# Altium footprint library CHXXX.pcblib: 121 footprints (part 6 of 8)
Each footprint in its own frame and in the unit in brackets; x right, y up, seen from the top. Pads: shape width x height; smd on the part's side, far side on the other; paste and mask are expansions set on the pad; w line width, h text height; cw(c..) or ccw(c..) is an arc to the next point about the centre after c.
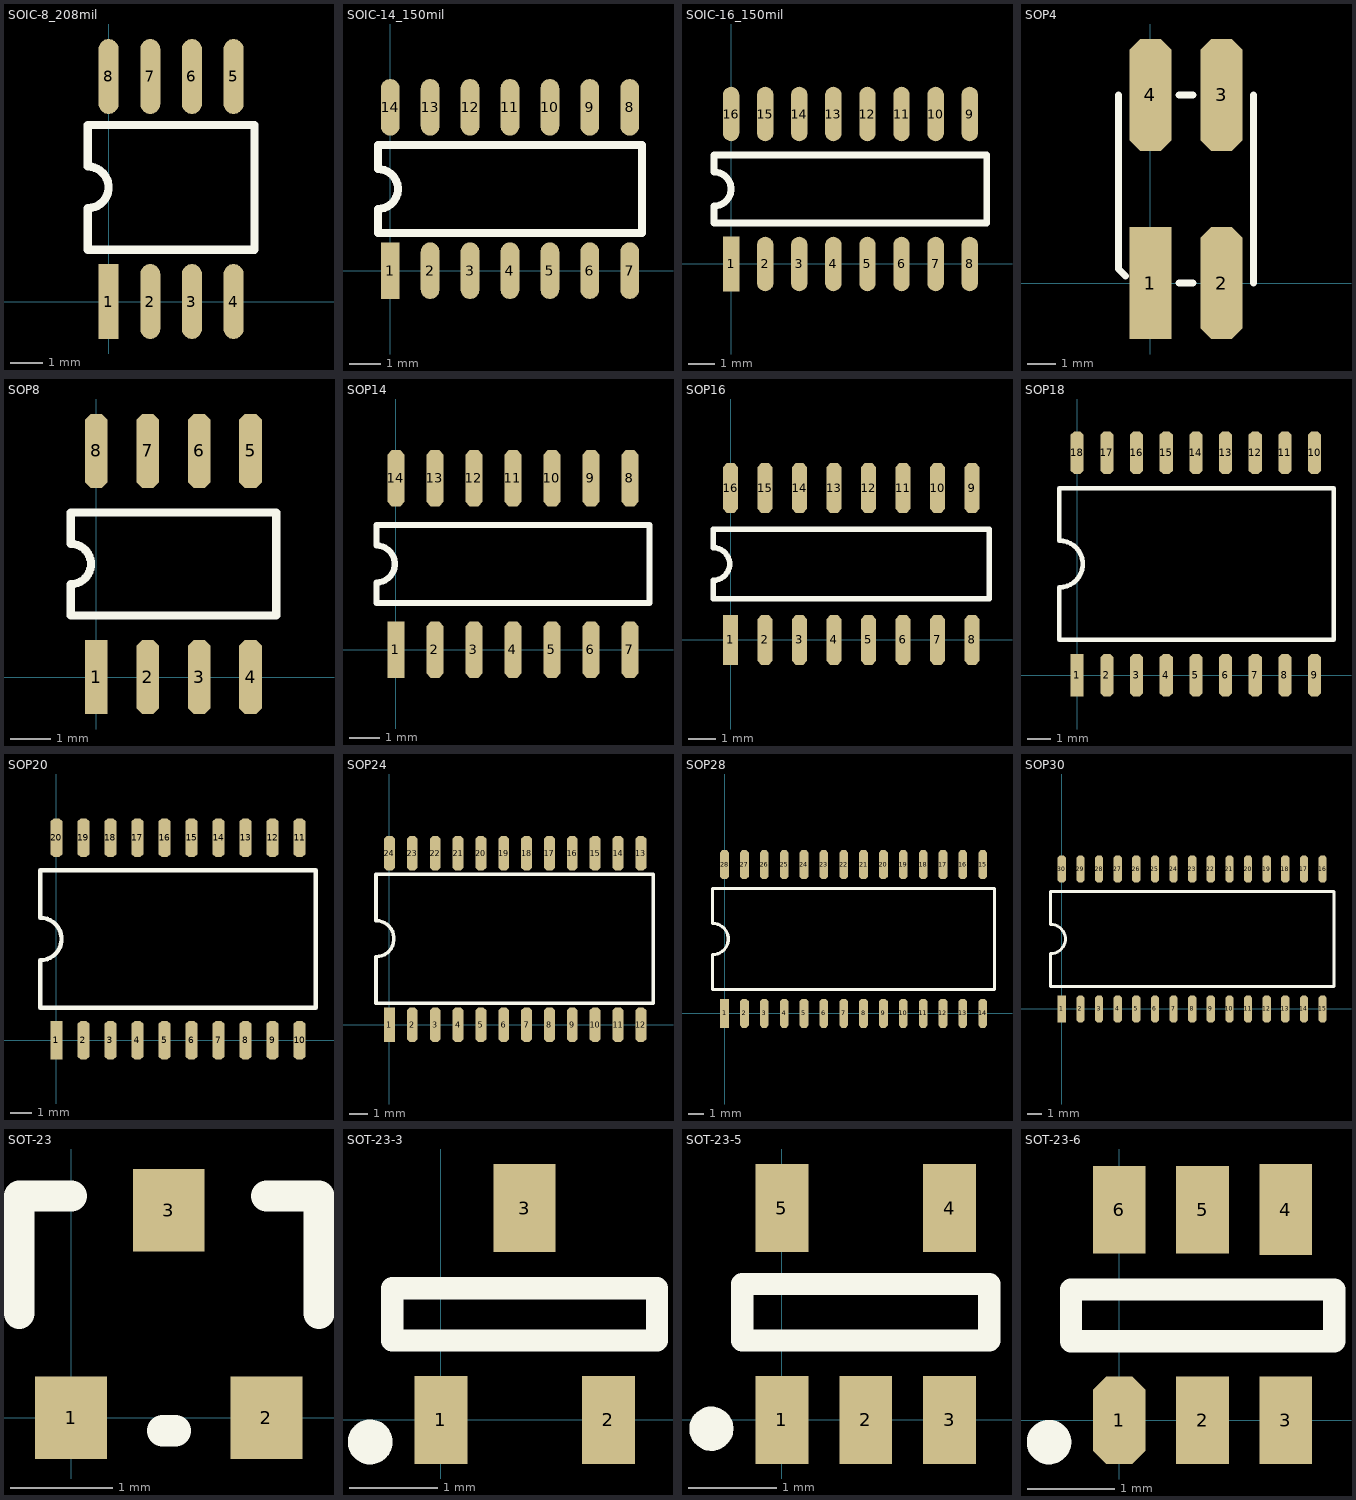
[diagram p5: the footprints below, top view; thin cyan lines are the x and y axes]

## SOIC-8_208mil [mil]
pads (8):
  rect 24x90 smd: 1(0,0)
  oval 24x90 smd: 2(50,0) 3(100,0) 4(150,0) 5(150,270) 6(100,270) 7(50,270) 8(0,270)
TopOverlay:
  lines w10: -25,62.2 175,62.2 175,211.81 -25,211.81 -25,162.01 cw(c-25,137.01) -25,112.01 -25,62.2

## SOIC-14_150mil [mm]
pads (14):
  rect 0.6x1.8 smd: 1(0,0)
  oval 0.6x1.8 smd: 2(1.27,0) 3(2.54,0) 4(3.81,0) 5(5.08,0) 6(6.35,0) 7(7.62,0) 8(7.62,5.2) 9(6.35,5.2) 10(5.08,5.2) 11(3.81,5.2) 12(2.54,5.2) 13(1.27,5.2) 14(0,5.2)
TopOverlay:
  lines w0.254: -0.39,1.2 -0.39,1.965 ccw(c-0.39,2.6) -0.39,3.235 -0.39,4 8.01,4 8.01,1.2 -0.39,1.2

## SOIC-16_150mil [mil]
pads (16):
  rect 24x80 smd: 1(0,0)
  oval 24x80 smd: 2(50,0) 3(100,0) 4(150,0) 5(200,0) 6(250,0) 7(300,0) 8(350,0) 9(350,220) 10(300,220) 11(250,220) 12(200,220) 13(150,220) 14(100,220) 15(50,220) 16(0,220)
TopOverlay:
  lines w10: -25,60 -25,85 ccw(c-25,110) -25,135 -25,160 375,160 375,60 -25,60

## SOP4 [mm]
pads (4):
  rect 1.5x4 smd: 1(0,0)
  oct 1.5x4 smd: 2(2.54,0) 3(2.54,6.726) 4(0,6.726)
TopOverlay:
  lines w0.254: -1.143,6.731 -1.143,0.508 -0.889,0.254 ; 1.016,0 1.524,0 ; 1.016,6.731 1.524,6.731 ; 3.683,0 3.683,6.731

## SOP8 [mil]
pads (8):
  rect 22x72 smd: 1(0,0)
  oct 22x72 smd: 2(50,0) 3(100,0) 4(150,0) 5(150,220) 6(100,220) 7(50,220) 8(0,220)
TopOverlay:
  lines w8: -25,60 175,60 175,160 -25,160 -25,129.69 cw(c-25,110) -25,90.31 -25,60

## SOP14 [mil]
pads (14):
  rect 22x72 smd: 1(0,0)
  oct 22x72 smd: 2(50,0) 3(100,0) 4(150,0) 5(200,0) 6(250,0) 7(300,0) 8(300,220) 9(250,220) 10(200,220) 11(150,220) 12(100,220) 13(50,220) 14(0,220)
TopOverlay:
  lines w8: -25,60 -25,86.38 ccw(c-25,110) -25,133.62 -25,160 325,160 325,60 -25,60

## SOP16 [mil]
pads (16):
  rect 22x72 smd: 1(0,0)
  oct 22x72 smd: 2(50,0) 3(100,0) 4(150,0) 5(200,0) 6(250,0) 7(300,0) 8(350,0) 9(350,220) 10(300,220) 11(250,220) 12(200,220) 13(150,220) 14(100,220) 15(50,220) 16(0,220)
TopOverlay:
  lines w8: -25,60 -25,86.38 ccw(c-25,110) -25,133.62 -25,160 375,160 375,60 -25,60

## SOP18 [mil]
pads (18):
  rect 22x72 smd: 1(0,0)
  oct 22x72 smd: 2(50,0) 3(100,0) 4(150,0) 5(200,0) 6(250,0) 7(300,0) 8(350,0) 9(400,0) 10(400,375) 11(350,375) 12(300,375) 13(250,375) 14(200,375) 15(150,375) 16(100,375) 17(50,375) 18(0,375)
TopOverlay:
  lines w8: -30,60 -30,148.13 ccw(c-30,187.5) -30,226.87 -30,315 432,315 432,60 -30,60

## SOP20 [mil]
pads (20):
  rect 22x72 smd: 1(0,0)
  oct 22x72 smd: 2(50,0) 3(100,0) 4(150,0) 5(200,0) 6(250,0) 7(300,0) 8(350,0) 9(400,0) 10(450,0) 11(450,375) 12(400,375) 13(350,375) 14(300,375) 15(250,375) 16(200,375) 17(150,375) 18(100,375) 19(50,375) 20(0,375)
TopOverlay:
  lines w8: -30,147.63 -30,60 480,60 480,315 -30,315 -30,226.87 cw(c-30,187.5) -30,148.13

## SOP24 [mm]
pads (24):
  rect 0.6x1.905 smd: 1(0,0)
  oct 0.6x1.905 smd: 2(1.27,0) 3(2.54,0) 4(3.81,0) 5(5.08,0) 6(6.35,0) 7(7.62,0) 8(8.89,0) 9(10.16,0) 10(11.43,0) 11(12.7,0) 12(13.97,0) 13(13.97,9.525) 14(12.7,9.525) 15(11.43,9.525) 16(10.16,9.525) 17(8.89,9.525) 18(7.62,9.525) 19(6.35,9.525) 20(5.08,9.525) 21(3.81,9.525) 22(2.54,9.525) 23(1.27,9.525) 24(0,9.525)
TopOverlay:
  lines w0.2: -0.747,1.191 14.653,1.191 14.653,8.368 -0.747,8.368 -0.747,5.78 cw(c-0.747,4.78) -0.747,3.78 -0.747,1.191

## SOP28 [mil]
pads (28):
  rect 22x72 smd: 1(0,0)
  oct 22x72 smd: 2(50,0) 3(100,0) 4(150,0) 5(200,0) 6(250,0) 7(300,0) 8(350,0) 9(400,0) 10(450,0) 11(500,0) 12(550,0) 13(600,0) 14(650,0) 15(650,375) 16(600,375) 17(550,375) 18(500,375) 19(450,375) 20(400,375) 21(350,375) 22(300,375) 23(250,375) 24(200,375) 25(150,375) 26(100,375) 27(50,375) 28(0,375)
TopOverlay:
  lines w8: -30,147.63 -30,60 680,60 680,315 -30,315 -30,226.87 cw(c-30,187.5) -30,148.13

## SOP30 [mil]
pads (30):
  rect 22x72 smd: 1(0,0)
  oct 22x72 smd: 2(50,0) 3(100,0) 4(150,0) 5(200,0) 6(250,0) 7(300,0) 8(350,0) 9(400,0) 10(450,0) 11(500,0) 12(550,0) 13(600,0) 14(650,0) 15(700,0) 16(700,375) 17(650,375) 18(600,375) 19(550,375) 20(500,375) 21(450,375) 22(400,375) 23(350,375) 24(300,375) 25(250,375) 26(200,375) 27(150,375) 28(100,375) 29(50,375) 30(0,375)
TopOverlay:
  lines w8: -30,60 -30,148.13 ccw(c-30,187.5) -30,226.87 -30,315 730,315 730,60 -30,60

## SOT-23 [mm]
pads (3):
  rect 0.7x0.8 smd: 1(0,0) 2(1.9,0) 3(0.95,2.02)
TopOverlay:
  lines w0.305: -0.508,1.016 -0.508,2.159 0,2.159 ; 0.889,-0.127 1.016,-0.127 ; 1.905,2.159 2.413,2.159 2.413,1.016

## SOT-23-3 [mm] "SOT-23-3"
height 1.2
pads (3):
  rect 0.6x1 smd: 1(0,0) 2(1.9,0)
  rect 0.7x1 smd: 3(0.95,2.4)
TopOverlay:
  circle w0.254: c-0.8,-0.25 r0.127
  lines w0.254: -0.55,0.9 -0.55,1.49 2.45,1.49 2.45,0.9 -0.55,0.9

## SOT-23-5 [mm]
pads (5):
  rect 0.6x1 smd: 1(0,0) 2(0.95,0) 3(1.9,0) 4(1.9,2.4) 5(0,2.4)
TopOverlay:
  circle w0.25: c-0.8,-0.1 r0.125
  lines w0.254: -0.45,0.9 -0.45,1.54 2.35,1.54 2.35,0.9 -0.45,0.9

## SOT-23-6 [mm] "SOT-23-6"
height 1.2
pads (6):
  oct 0.6x1 smd: 1(0,0)
  rect 0.6x1 smd: 2(0.95,0) 3(1.9,0) 5(0.95,2.4) 6(0,2.4)
  rect 0.6x1.04 smd: 4(1.9,2.4)
TopOverlay:
  circle w0.254: c-0.8,-0.25 r0.127
  lines w0.254: -0.55,0.9 2.45,0.9 2.45,1.49 -0.55,1.49 -0.55,0.9